# Altium schematic symbol library Molex.SchLib: 3 symbols
Pins are listed as number, name and electrical type; pins without a type are passive.

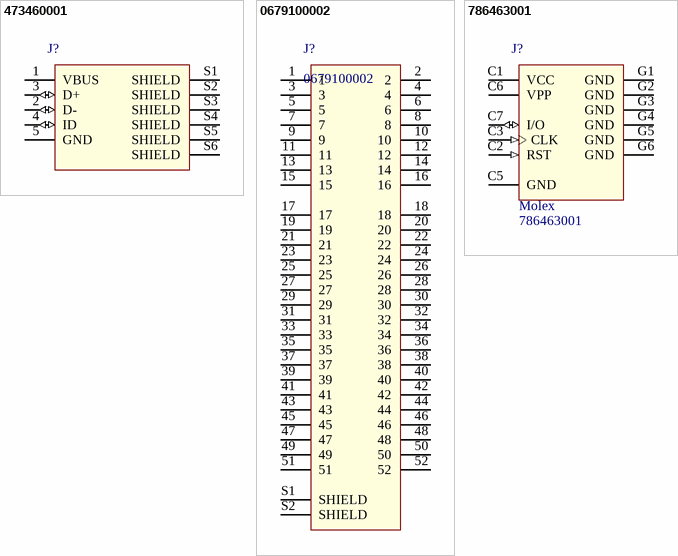
[diagram p0: symbols 473460001 to 786463001]

## 473460001
designator J?  (value not drawn)
USB Connectors MICRO USB B RECPT BTTM MOUNT ASSY; Manufacturer: Molex; PartNumber: 473460001
footprint MOLEX-473460001
pins: 1 VBUS (power), 2 D- (io), 3 D+ (io), 4 ID (io), 5 GND (power), S1 SHIELD, S2 SHIELD, S3 SHIELD, S4 SHIELD, S5 SHIELD, S6 SHIELD

## 0679100002
designator J?
Connector Mini PCI Express 52POS - Quectel modem; Manufacturer: Molex; PartNumber: 0679100002; Supplier 1: Digi-Key; Supplier Part Number 1: WM3470CT-ND; Supplier 2: Mouser; Supplier Part Number 2: 538-67910-0002
footprint MOLEX-679100002
pins: 1, 2, 3, 4, 5, 6, 7, 8, 9, 10, 11, 12, 13, 14, 15, 16, 17, 18, 19, 20, 21, 22, 23, 24, 25, 26, 27, 28, 29, 30, 31, 32, 33, 34, 35, 36, 37, 38, 39, 40, 41, 42, 43, 44, 45, 46, 47, 48, 49, 50, 51, 52, S1 SHIELD, S2 SHIELD

## 786463001
designator J?  Manufacturer: Molex  (hidden comment: 786463001)
6 Position Card Connector Micro SIM Surface Mount, Right Angle Gold; Supplier 1: Digi-Key; Supplier 2: Mouser; Supplier Part Number 1: WM9364CT-ND; Supplier Part Number 2: 538-78646-3001; PartNumber: 786463001
footprint MOLEX-786463001
pins: C1 VCC (power), C2 RST (in), C3 CLK (in), C5 GND (power), C6 VPP (power), C7 I/O (io), G1 GND (power), G2 GND (power), G3 GND (power), G4 GND (power), G5 GND (power), G6 GND (power)